# Altium schematic symbol library Bier_kuehler.SCHLIB: 17 symbols
Pins are listed as number, name and electrical type; pins without a type are passive.

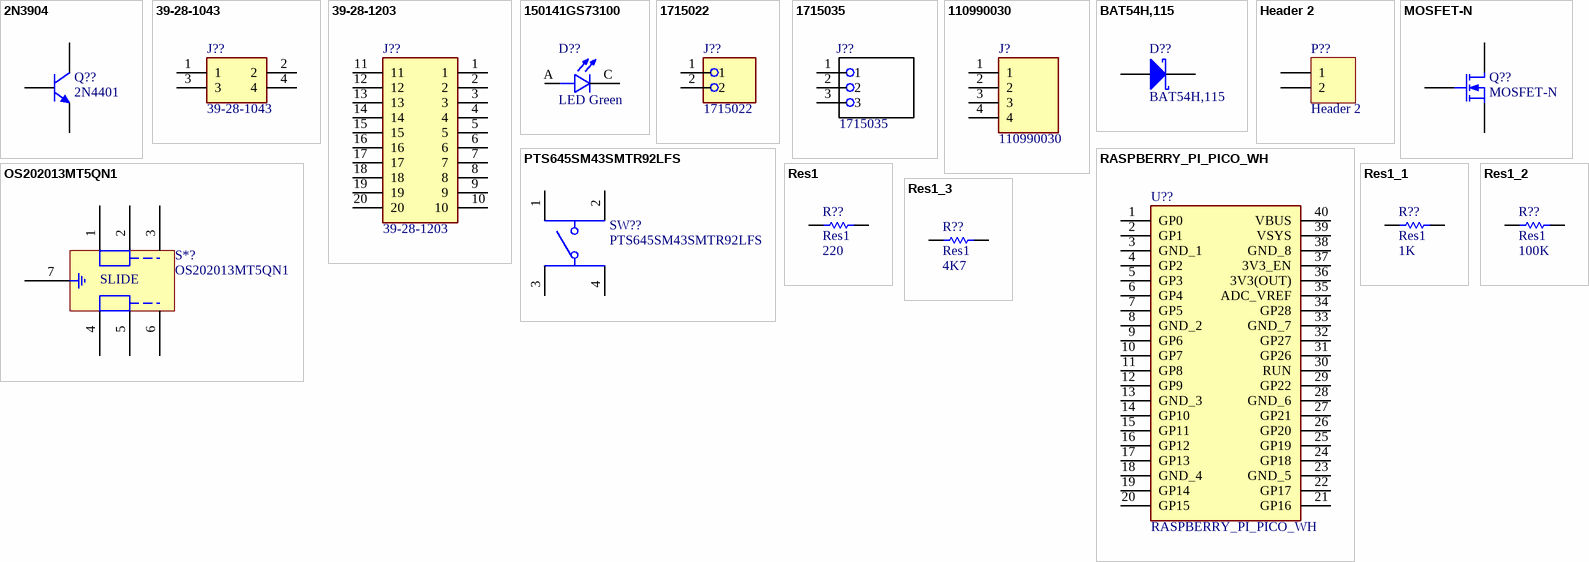
[diagram p0: symbols 2N3904 to Res1_3]

## 2N3904
designator Q??, comment 2N4401
NPN General Purpose Amplifier; Published: 8-Jun-2000; LatestRevisionDate: 15-Jan-2003; LatestRevisionNote: PCB Footprint 'BCY-W3/D4.7' replaced; DatasheetVersion: 1997; PackageVersion: Sep-1998; PackageReference: TO-92A; Publisher: Altium Limited; PackageDescription: TO, Flat Index; 3 In-Line, Axial Leads; Body Dia. 4.5mm; Leads 0.51 x 0.48 mm (max); ComponentLink1Description: Manufacturer Link; ComponentLink1URL: http://www.fairchildsemi.com/; ComponentLink2Description: Datasheet; ComponentLink2URL: http://www.fairchildsemi.com/ds/2N%2F2N3904.pdf
footprint TO-92A (TO, Flat Index; 3 In-Line, Axial Leads; Body Dia. 4.5mm; Leads 0.51 x 0.48 mm (max))
simulation model 2N3904 (NPN)
signal-integrity model 2N3904
pins: 1 E, 2 B, 3 C

## 39-28-1043
designator J??
Connector; Manufacturer_Name: Molex; Datasheet Link: https://www.molex.com/pdm_docs/sd/039281023_sd.pdf; Height: 12.8mm; Manufacturer_Part_Number: 39-28-1043; Mouser Part Number: 538-39-28-1043; Mouser Price/Stock: https://www.mouser.co.uk/ProductDetail/Molex/39-28-1043?qs=LQQHZ4xw2XCMHoV0KRLGhg%3D%3D; Arrow Part Number: 39-28-1043; Arrow Price/Stock: https://www.arrow.com/en/products/39-28-1043/molex?region=nac
footprint 39-28-1043
pins: 1, 2, 3, 4

## 39-28-1203
designator J??
Connector; Manufacturer_Name: Molex; Datasheet Link: https://www.molex.com/pdm_docs/sd/039281023_sd.pdf; Height: 12.8mm; Manufacturer_Part_Number: 39-28-1203; Mouser Part Number: 538-39-28-1203; Mouser Price/Stock: https://www.mouser.co.uk/ProductDetail/Molex/39-28-1203?qs=4XSMV6Twtb2DRME9sVHqvA%3D%3D
footprint 39-28-1203
pins: 1, 2, 3, 4, 5, 6, 7, 8, 9, 10, 11, 12, 13, 14, 15, 16, 17, 18, 19, 20

## 150141GS73100
designator D??, comment LED Green
Green 525nm LED Indication - Discrete 3.1V 1411 (3528 Metric); Mouser Part Number: 710-150141GS73100; Datasheet: https://www.mouser.ch/datasheet/2/445/150141GS73100-1715081.pdf
footprint 1411_LED (1411 Footprint for LEDs)
pins: A, C

## 1715022
designator J??
PCB Terminal Screw 5mm 16AWG 400V 17.5A 2 Position COMBICON MKDS Series | Phoenix Contact 1715022; SnapEDA_Link: https://www.snapeda.com/parts/1715022/Phoenix+Contact/view-part/?ref=snap; Package: None; Value: *; MF: Phoenix Contact; MP: 1715022; Check_prices: https://www.snapeda.com/parts/1715022/Phoenix+Contact/view-part/?ref=eda
footprint PHOENIX_1715022
pins: 1, 2

## 1715035
designator J??
SnapEDA_Link: https://www.snapeda.com/parts/1715035/Phoenix+Contact/view-part/?ref=snap; Check_prices: https://www.snapeda.com/parts/1715035/Phoenix+Contact/view-part/?ref=eda; Value: *
footprint *PHOENIX_1715035
pins: 1, 2, 3

## 110990030
designator J?
GROVE 2MM 4PIN VERT CONN 10PCS; MF: Seeed Technology; Arrow_Electronics-Purchase-URL: https://snapeda.com/shop?store=Arrow+Electronics&id=583576; Availability: Good; Package: None; Price: None; Mouser-Purchase-URL: https://snapeda.com/shop?store=Mouser&id=583576; MP: 110990030; SnapEDA_Link: https://www.snapeda.com/parts/110990030/Seeed%20Technology%20Co.,%20Ltd/view-part/583576/?ref=snap; Value: *
footprint SEEED_110990030
pins: 1, 2, 3, 4

## BAT54H,115
designator D??
D SCHOTTKY 30V 200MA; Mouser Number: 771-BAT54H-T/R; Datasheet: https://www.mouser.ch/datasheet/2/916/BAT54H-1598132.pdf
footprint SOD-123F (SOD-123F, 2-Leads, Body 1.60x3.50mm, IPC Medium Density)
pins: 1 K, 2 A

## Header 2
designator P??
Header, 2-Pin; LatestRevisionDate: 17-Jul-2002; LatestRevisionNote: Re-released for DXP Platform.; Publisher: Altium Limited
footprint HDR1X2 (Connector; Header; 2 Position)
signal-integrity model Connector
pins: 1, 2

## MOSFET-N
designator Q??
N-Channel MOSFET; Published: 8-Jun-2000; LatestRevisionDate: 17-Jul-2002; LatestRevisionNote: Re-released for DXP Platform.; PackageVersion: 1995/1996; PackageReference: E3; Publisher: Altium Limited; PackageDescription: TO, Flat Index; 3 In-Line, Axial Leads; Body Dia. 4.6mm; Lead Dia. 0.5 mm (max)
footprint E3 (TO, Flat Index; 3 In-Line, Axial Leads; Body Dia. 4.6mm; Lead Dia. 0.5 mm (max))
simulation model NMOS (MOSFET-N)
pins: 1 D, 2 G, 3 S

## OS202013MT5QN1
designator S*?
Slide Switch
footprint OS202013MT5QN1 (Toggle Switch)
pins: 1 (power), 2 (power), 3 (power), 4 (power), 5 (power), 6 (power), 7 (power)
text: SLIDE

## PTS645SM43SMTR92LFS
designator SW??
Tactile Switch Normally Open; Datasheet: https://www.mouser.ch/datasheet/2/60/pts645-1841767.pdf; Mouser Part Number: 611-PTS645SM43SMTR92
footprint SWITCH_43SMTR92LFS
pins: 1, 2, 3, 4

## RASPBERRY_PI_PICO_WH
designator U??
Undefined or Miscellaneous; Manufacturer_Name: RASPBERRY-PI; Manufacturer_Part_Number: RASPBERRY PI PICO WH; Datasheet Link: https://datasheets.raspberrypi.com/picow/pico-w-datasheet.pdf; Height: 4mm
footprint RASPBERRYPIPICOWH
pins: 1 GP0, 2 GP1, 3 GND_1, 4 GP2, 5 GP3, 6 GP4, 7 GP5, 8 GND_2, 9 GP6, 10 GP7, 11 GP8, 12 GP9, 13 GND_3, 14 GP10, 15 GP11, 16 GP12, 17 GP13, 18 GND_4, 19 GP14, 20 GP15, 21 GP16, 22 GP17, 23 GND_5, 24 GP18, 25 GP19, 26 GP20, 27 GP21, 28 GND_6, 29 GP22, 30 RUN, 31 GP26, 32 GP27, 33 GND_7, 34 GP28, 35 ADC_VREF, 36 3V3(OUT), 37 3V3_EN, 38 GND_8, 39 VSYS, 40 VBUS

## Res1
designator R??  value 220
Resistor; Published: 8-Jun-2000; LatestRevisionDate: 17-Jul-2002; LatestRevisionNote: Re-released for DXP Platform.; PackageReference: AXIAL-0.3; Publisher: Altium Limited; PackageDescription: Axial Device, Thru-Hole; 2 Leads; 0.3 in Pin Spacing
footprint AXIAL-0.3 (Axial Device, Thru-Hole; 2 Leads; 0.3 in Pin Spacing)
simulation model RESISTOR (Resistor)
signal-integrity model Res
pins: 1, 2

## Res1_1
designator R??, comment Res1  value 1K
Resistor; Published: 8-Jun-2000; LatestRevisionDate: 17-Jul-2002; LatestRevisionNote: Re-released for DXP Platform.; PackageReference: AXIAL-0.3; Publisher: Altium Limited; PackageDescription: Axial Device, Thru-Hole; 2 Leads; 0.3 in Pin Spacing
footprint AXIAL-0.3 (Axial Device, Thru-Hole; 2 Leads; 0.3 in Pin Spacing)
simulation model RESISTOR (Resistor)
signal-integrity model Res
pins: 1, 2

## Res1_2
designator R??, comment Res1  value 100K
Resistor; Published: 8-Jun-2000; LatestRevisionDate: 17-Jul-2002; LatestRevisionNote: Re-released for DXP Platform.; PackageReference: AXIAL-0.3; Publisher: Altium Limited; PackageDescription: Axial Device, Thru-Hole; 2 Leads; 0.3 in Pin Spacing
footprint AXIAL-0.3 (Axial Device, Thru-Hole; 2 Leads; 0.3 in Pin Spacing)
simulation model RESISTOR (Resistor)
signal-integrity model Res
pins: 1, 2

## Res1_3
designator R??, comment Res1  value 4K7
Resistor; Published: 8-Jun-2000; LatestRevisionDate: 17-Jul-2002; LatestRevisionNote: Re-released for DXP Platform.; PackageReference: AXIAL-0.3; Publisher: Altium Limited; PackageDescription: Axial Device, Thru-Hole; 2 Leads; 0.3 in Pin Spacing
footprint AXIAL-0.3 (Axial Device, Thru-Hole; 2 Leads; 0.3 in Pin Spacing)
simulation model RESISTOR (Resistor)
signal-integrity model Res
pins: 1, 2